# EAGLE library part 691701320008B (library WR-TBL Pluggable Connector)
WR-TBL Serie 7013 - 3.81 mm Vertical PCB Header THR Type with Flanges KIND PROPERTIES Pitch 3.81 mm MATERIAL PROPERTIES Insulator Material LCP Insulator Flammability Rating UL94 V-0 Contact Material Brass Contact Plating Tin GENERAL INFORMATION Operating Temperature -40 up to +105 °C Compliance RoHS ELECTRICAL PROPERTIES IR cULus 10 A Working Voltage [cULus] 300 V (AC) Withstanding Voltage [cULus] 2500 V (AC) Contact Resistance [cULus] 20 mΩ CERTIFICATION cULus Approval E315414 <https://www.we-online.com/catalog/media/o33329v209%20Family_WR-TBL_6917013200xxB.jpg> Details see: https://www.we-online.com/catalog/en/TBL_3_81_THR_7013_VERTICAL_PCB_HEADER_W_FLANGES_6917013200XXB/ Updated by Ella Wu 2022-07-25 2022(C) Wurth Elektronik
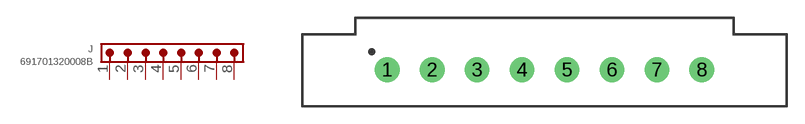
[diagram p137: symbol with the pads of 691701320008B; footprint 691701320008B]

Designator prefix J

## 691701320008B (DATASHEET-URL: https://www.we-online.com/redexpert/spec/691701320008B?ae; IR-UL: 10A; MOUNT: THT; PART-NUMBER: 691701320008B; PINS: 8; PITCH: 3.81mm; TYPE: Vertical THR; VALUE: 691701320008B; WORKING-VOLTAGE-UL: 300V (AC))  [691701320008B]
1  1  pas
2  2  pas
3  3  pas
4  4  pas
5  5  pas
6  6  pas
7  7  pas
8  8  pas

## Footprint 691701320008B (pad centres in mm)
WR-TBL Serie 7013 - 3.81 mm Vertical PCB Header THR Type with Flanges Max Height = 9.2mm , Pitch 3.81mm , 8pins
drill 1.4: 1 -13.335,0; 2 -9.525,0; 3 -5.715,0; 4 -1.905,0; 5 1.905,0; 6 5.715,0; 7 9.525,0; 8 13.335,0